# EAGLE library part M06 (library mspfacedraft3)
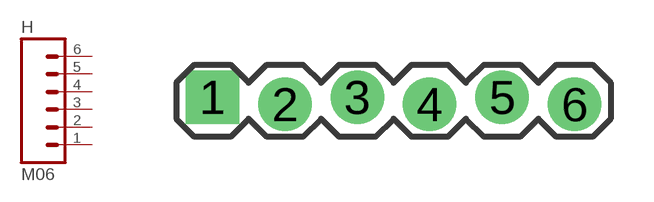
[diagram p4: symbol with the pads of 6PINHEADER; footprint 6PINHEADER]

Designator prefix H

## M06  [6PINHEADER]
1  1  pas
2  2  pas
3  3  pas
4  4  pas
5  5  pas
6  6  pas

## Footprint 6PINHEADER (pad centres in mm)
drill 1.016 pad 1.88 square: 1 -3.81,0.127
drill 1.016 pad 1.88: 2 -1.27,-0.127; 3 1.27,0.127; 4 3.81,-0.127; 5 6.35,0.127; 6 8.89,-0.127